# Altium schematic symbol library bldc_lib.SchLib: 19 symbols
Pins are listed as number, name and electrical type; pins without a type are passive.

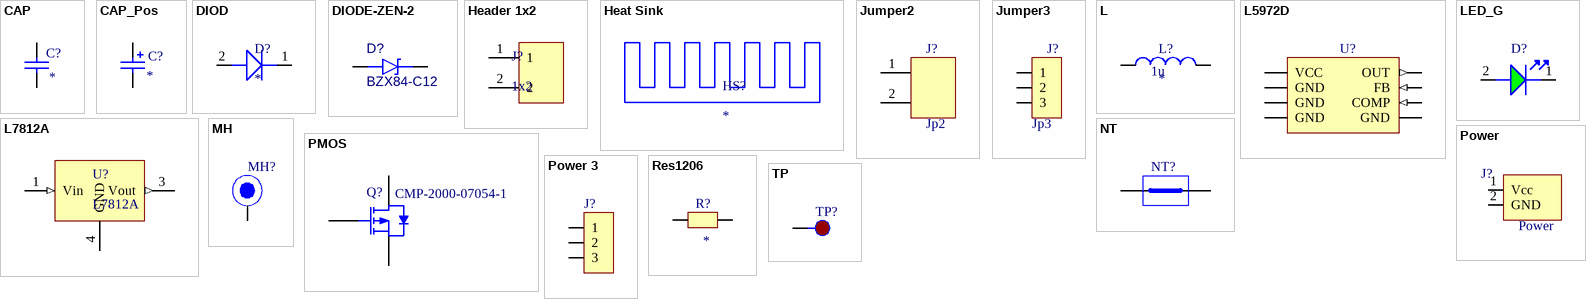
[diagram p0: symbols CAP to TP]

## CAP
designator C?
Capasitor; Value: *
footprint CAPC3216X06N (Chip Capacitor, 2-Leads, Body 3,20x1,60mm, IPC Medium Density)
pins: 1 2, 2 1

## CAP_Pos
designator C?
Capacitor; Value: *
footprint CAP_EEEFN1H220UR
pins: 1, 2

## DIOD
designator D?
Name: *
footprint CAPM3216X18N
pins: 1 K, 2 A

## DIODE-ZEN-2
designator D?, comment BZX84-C12
Zener Diode; Value: 12V
pins: 1 K, 2 A

## Header 1x2
designator J?, comment 1x2
Header 1x2 2.54mm
pins: 1, 2

## Heat Sink
designator HS?
footprint Heat Sink

## Jumper2
designator J?, comment Jp2
pins: 1, 2

## Jumper3
designator J?, comment Jp3
footprint HEADER 1x3 2.54mm
pins: 1, 2, 3

## L
designator L?  value 1u
Parameter 1: *
footprint HE1040
pins: 1, 2

## L5972D
designator U?  (value not drawn)
Buck Switching Regulator IC Positive Adjustable 1.235V 1 Output 2A 8-SOIC (0.154", 3.90mm Width)
footprint SO-8 (SO-8, 8-Leads, Body 4,90x3,90mm, Pitch 1,27mm, IPC Medium Density)
pins: 1 OUT (out), 2 GND (power), 3 GND (power), 4 COMP (in), 5 FB (in), 6 GND (power), 7 GND (power), 8 VCC (power)

## L7812A
designator U?
footprint DPAK254P1530X456-3N (D2-PAK, 3-Pads, Body 7,60x8,64mm (max), IPC Medium Density)
pins: 1 Vin (in), 3 Vout (out), 4 GND (power)

## LED_G
designator D?, comment GREEN  (value not drawn)
footprint DIOC3216X06N (Chip Diode, 2-Leads, Body 3,15x1,60mm, IPC Medium Density)
pins: 1, 2

## MH
designator MH?  (value not drawn)
footprint MH
pins: 1

## NT
designator NT?  (value not drawn)  (net tie, no BOM)
footprint NT_10mil (10mil Uninsulated Shorting Plug)
footprint NT_20mil (20mil Uninsulated Shorting Plug)
footprint NT_50mil
pins: 1 *, 2 *

## PMOS
designator Q?, comment CMP-2000-07054-1
IRF4905STRLPBF, Транзистор HEXFET, P-канал, 55В, 74А [D2-PAK]
pins: 1 G, 2 D, 3 S

## Power
designator J?
footprint Power Connector
pins: 1 Vcc (power), 2 GND (power)

## Power 3
designator J?
footprint Power 3
pins: 1, 2, 3

## Res1206
designator R?
Value: *
footprint RESC3016X06N (Chip Resistor, 2-Leads, Body 3,05x1,60mm, IPC Medium Density)
pins: 1, 2

## TP
designator TP?  (value not drawn)  (no BOM)
footprint Test Point
pins: 1